# EAGLE library part 201646-014_S (library con-molex-spoton)
HEADER
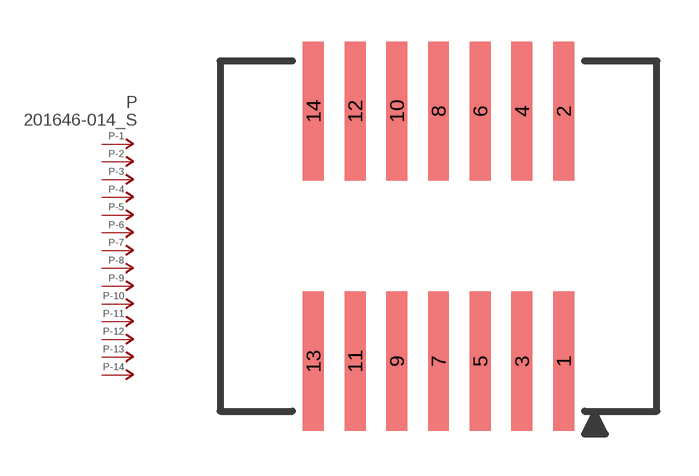
[diagram p8: symbol with the pads of 201646-014; footprint 201646-014]

Designator prefix P; gates -1=P-NV -2=P-N -3=P-N -4=P-N -5=P-N -6=P-N -7=P-N -8=P-N -9=P-N -10=P-N -11=P-N -12=P-N -13=P-N -14=P-N

## 201646-014_S  [201646-014]
1  -1:P  pas
2  -2:P  pas
3  -3:P  pas
4  -4:P  pas
5  -5:P  pas
6  -6:P  pas
7  -7:P  pas
8  -8:P  pas
9  -9:P  pas
10  -10:P  pas
11  -11:P  pas
12  -12:P  pas
13  -13:P  pas
14  -14:P  pas

## Footprint 201646-014 (pad centres in mm)
HEADER
smd 0.75 x 5: 1 4.5,-4.5; 2 4.5,4.5; 3 3,-4.5; 4 3,4.5; 5 1.5,-4.5; 6 1.5,4.5; 7 0,-4.5; 8 0,4.5; 9 -1.5,-4.5; 10 -1.5,4.5; 11 -3,-4.5; 12 -3,4.5; 13 -4.5,-4.5; 14 -4.5,4.5